# Altium schematic symbol library n-mosfet_3.Schlib: 1 symbol
Pins are listed as number, name and electrical type; pins without a type are passive.

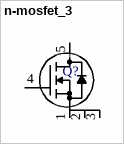
[diagram p0: symbol n-mosfet_3]

## n-mosfet_3
designator Q?  (value not drawn)
N-Channel MOSFET w/ Body Diode LFPAK
pins: 1 S, 2 S, 3 S, 4 G, 5 D